# Altium footprint library Connector_FFC-FPC.PcbLib: 372 footprints (part 5 of 24)
Each footprint in its own frame and in the unit in brackets; x right, y up, seen from the top. Pads: shape width x height; smd on the part's side, far side on the other; paste and mask are expansions set on the pad; w line width, h text height; cw(c..) or ccw(c..) is an arc to the next point about the centre after c.
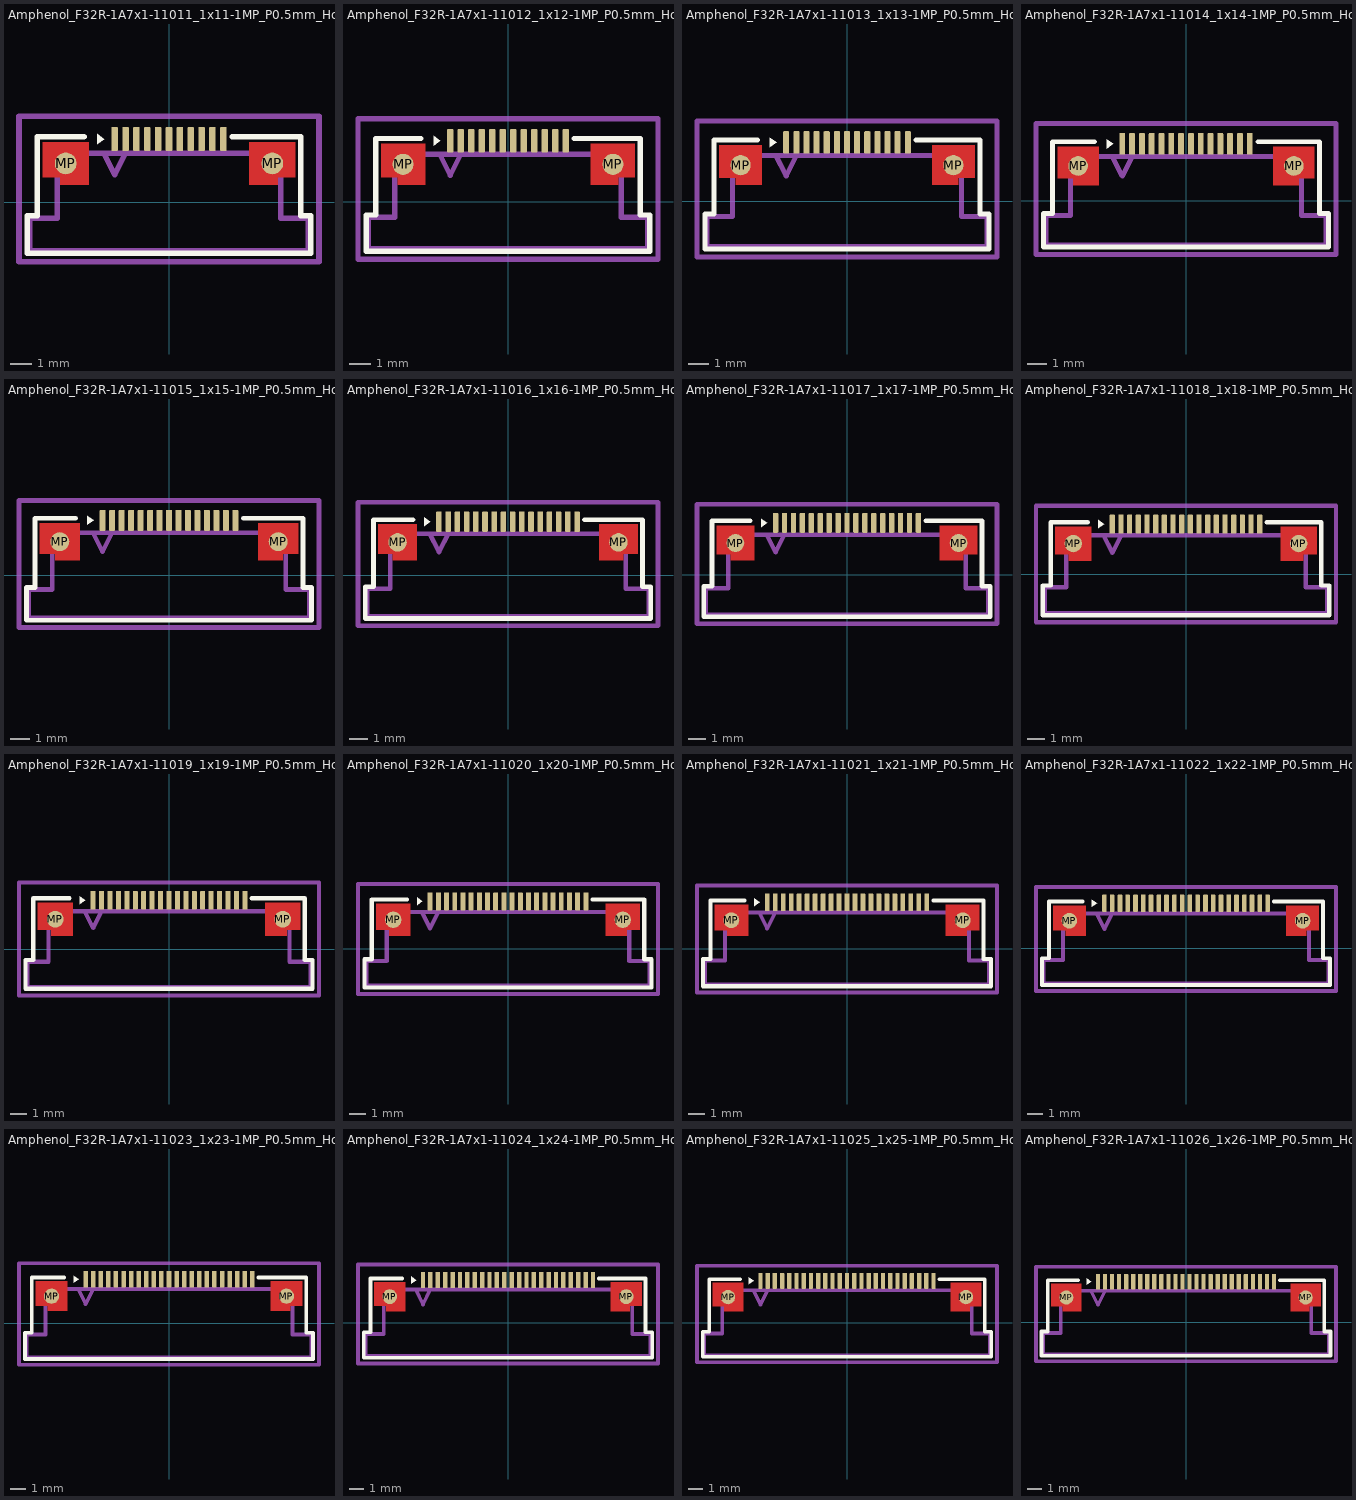
[diagram p4: the footprints below, top view; thin cyan lines are the x and y axes]

## Amphenol_F32R-1A7x1-11011_1x11-1MP_P0.5mm_Horizontal [mm]
pads (13):
  rrect25% 0.3x1.1 smd: 1(-2.5,2.9) 2(-2,2.9) 3(-1.5,2.9) 4(-1,2.9) 5(-0.5,2.9) 6(0,2.9) 7(0.5,2.9) 8(1,2.9) 9(1.5,2.9) 10(2,2.9) 11(2.5,2.9)
  round 1 smd: MP(-4.75,1.775) MP(4.75,1.775)
F.Cu:
  region: 5.8,1.15 5,1.15 5,0.8 3.7,0.8 3.7,2.75 5.8,2.75
  region: -3.7,0.8 -5,0.8 -5,1.15 -5.8,1.15 -5.8,2.75 -3.7,2.75
F.SilkS:
  region: -2.97,2.9 -3.3,2.66 -3.3,3.14
  lines w0.254: -3.91,3.01 -6.06,3.01 -6.06,-0.64 -6.51,-0.64 -6.51,-2.36 6.51,-2.36 6.51,-0.64 6.06,-0.64 6.06,3.01 2.91,3.01
F.Paste:
  region: 5.8,1.15 5,1.15 5,0.8 3.7,0.8 3.7,2.75 5.8,2.75
  region: -3.7,0.8 -5,0.8 -5,1.15 -5.8,1.15 -5.8,2.75 -3.7,2.75
F.Mask:
  region: 5.8,1.15 5,1.15 5,0.8 3.7,0.8 3.7,2.75 5.8,2.75
  region: -3.7,0.8 -5,0.8 -5,1.15 -5.8,1.15 -5.8,2.75 -3.7,2.75
Top Assembly:
  lines w0.254: -3,2.25 -2.5,1.25 -2,2.25 ; -6.4,-2.25 6.4,-2.25 6.4,-0.75 5.15,-0.75 5.15,2.25 -5.15,2.25 -5.15,-0.75 -6.4,-0.75 -6.4,-2.25
  text "'.Designator'" at -4.047,-0.84 h1
Top Courtyard:
  lines w0.254: -6.9,-2.75 6.9,-2.75 6.9,3.95 -6.9,3.95 -6.9,-2.75
Top Designator:
  text ".Designator" at -7.618,0.092 h1.52

## Amphenol_F32R-1A7x1-11012_1x12-1MP_P0.5mm_Horizontal [mm]
pads (14):
  rrect25% 0.3x1.1 smd: 1(-2.75,2.9) 2(-2.25,2.9) 3(-1.75,2.9) 4(-1.25,2.9) 5(-0.75,2.9) 6(-0.25,2.9) 7(0.25,2.9) 8(0.75,2.9) 9(1.25,2.9) 10(1.75,2.9) 11(2.25,2.9) 12(2.75,2.9)
  round 1 smd: MP(-5,1.775) MP(5,1.775)
F.Cu:
  region: 6.05,1.15 5.25,1.15 5.25,0.8 3.95,0.8 3.95,2.75 6.05,2.75
  region: -3.95,0.8 -5.25,0.8 -5.25,1.15 -6.05,1.15 -6.05,2.75 -3.95,2.75
F.SilkS:
  region: -3.22,2.9 -3.55,2.66 -3.55,3.14
  lines w0.254: -4.16,3.01 -6.31,3.01 -6.31,-0.64 -6.76,-0.64 -6.76,-2.36 6.76,-2.36 6.76,-0.64 6.31,-0.64 6.31,3.01 3.16,3.01
F.Paste:
  region: 6.05,1.15 5.25,1.15 5.25,0.8 3.95,0.8 3.95,2.75 6.05,2.75
  region: -3.95,0.8 -5.25,0.8 -5.25,1.15 -6.05,1.15 -6.05,2.75 -3.95,2.75
F.Mask:
  region: 6.05,1.15 5.25,1.15 5.25,0.8 3.95,0.8 3.95,2.75 6.05,2.75
  region: -3.95,0.8 -5.25,0.8 -5.25,1.15 -6.05,1.15 -6.05,2.75 -3.95,2.75
Top Assembly:
  lines w0.254: -3.25,2.25 -2.75,1.25 -2.25,2.25 ; -6.65,-2.25 6.65,-2.25 6.65,-0.75 5.4,-0.75 5.4,2.25 -5.4,2.25 -5.4,-0.75 -6.65,-0.75 -6.65,-2.25
  text "'.Designator'" at -4.047,-0.84 h1
Top Courtyard:
  lines w0.254: -7.15,-2.75 7.15,-2.75 7.15,3.95 -7.15,3.95 -7.15,-2.75
Top Designator:
  text ".Designator" at -7.618,0.092 h1.52

## Amphenol_F32R-1A7x1-11013_1x13-1MP_P0.5mm_Horizontal [mm]
pads (15):
  rrect25% 0.3x1.1 smd: 1(-3,2.9) 2(-2.5,2.9) 3(-2,2.9) 4(-1.5,2.9) 5(-1,2.9) 6(-0.5,2.9) 7(0,2.9) 8(0.5,2.9) 9(1,2.9) 10(1.5,2.9) 11(2,2.9) 12(2.5,2.9) 13(3,2.9)
  round 1 smd: MP(-5.25,1.775) MP(5.25,1.775)
F.Cu:
  region: 6.3,1.15 5.5,1.15 5.5,0.8 4.2,0.8 4.2,2.75 6.3,2.75
  region: -4.2,0.8 -5.5,0.8 -5.5,1.15 -6.3,1.15 -6.3,2.75 -4.2,2.75
F.SilkS:
  region: -3.47,2.9 -3.8,2.66 -3.8,3.14
  lines w0.254: -4.41,3.01 -6.56,3.01 -6.56,-0.64 -7.01,-0.64 -7.01,-2.36 7.01,-2.36 7.01,-0.64 6.56,-0.64 6.56,3.01 3.41,3.01
F.Paste:
  region: 6.3,1.15 5.5,1.15 5.5,0.8 4.2,0.8 4.2,2.75 6.3,2.75
  region: -4.2,0.8 -5.5,0.8 -5.5,1.15 -6.3,1.15 -6.3,2.75 -4.2,2.75
F.Mask:
  region: 6.3,1.15 5.5,1.15 5.5,0.8 4.2,0.8 4.2,2.75 6.3,2.75
  region: -4.2,0.8 -5.5,0.8 -5.5,1.15 -6.3,1.15 -6.3,2.75 -4.2,2.75
Top Assembly:
  lines w0.254: -3.5,2.25 -3,1.25 -2.5,2.25 ; -6.9,-2.25 6.9,-2.25 6.9,-0.75 5.65,-0.75 5.65,2.25 -5.65,2.25 -5.65,-0.75 -6.9,-0.75 -6.9,-2.25
  text "'.Designator'" at -4.047,-0.84 h1
Top Courtyard:
  lines w0.254: -7.4,-2.75 7.4,-2.75 7.4,3.95 -7.4,3.95 -7.4,-2.75
Top Designator:
  text ".Designator" at -7.618,0.092 h1.52

## Amphenol_F32R-1A7x1-11014_1x14-1MP_P0.5mm_Horizontal [mm]
pads (16):
  rrect25% 0.3x1.1 smd: 1(-3.25,2.9) 2(-2.75,2.9) 3(-2.25,2.9) 4(-1.75,2.9) 5(-1.25,2.9) 6(-0.75,2.9) 7(-0.25,2.9) 8(0.25,2.9) 9(0.75,2.9) 10(1.25,2.9) 11(1.75,2.9) 12(2.25,2.9) 13(2.75,2.9) 14(3.25,2.9)
  round 1 smd: MP(-5.5,1.775) MP(5.5,1.775)
F.Cu:
  region: 6.55,1.15 5.75,1.15 5.75,0.8 4.45,0.8 4.45,2.75 6.55,2.75
  region: -4.45,0.8 -5.75,0.8 -5.75,1.15 -6.55,1.15 -6.55,2.75 -4.45,2.75
F.SilkS:
  region: -3.72,2.9 -4.05,2.66 -4.05,3.14
  lines w0.254: -4.66,3.01 -6.81,3.01 -6.81,-0.64 -7.26,-0.64 -7.26,-2.36 7.26,-2.36 7.26,-0.64 6.81,-0.64 6.81,3.01 3.66,3.01
F.Paste:
  region: 6.55,1.15 5.75,1.15 5.75,0.8 4.45,0.8 4.45,2.75 6.55,2.75
  region: -4.45,0.8 -5.75,0.8 -5.75,1.15 -6.55,1.15 -6.55,2.75 -4.45,2.75
F.Mask:
  region: 6.55,1.15 5.75,1.15 5.75,0.8 4.45,0.8 4.45,2.75 6.55,2.75
  region: -4.45,0.8 -5.75,0.8 -5.75,1.15 -6.55,1.15 -6.55,2.75 -4.45,2.75
Top Assembly:
  lines w0.254: -3.75,2.25 -3.25,1.25 -2.75,2.25 ; -7.15,-2.25 7.15,-2.25 7.15,-0.75 5.9,-0.75 5.9,2.25 -5.9,2.25 -5.9,-0.75 -7.15,-0.75 -7.15,-2.25
  text "'.Designator'" at -4.047,-0.84 h1
Top Courtyard:
  lines w0.254: -7.65,-2.75 7.65,-2.75 7.65,3.95 -7.65,3.95 -7.65,-2.75
Top Designator:
  text ".Designator" at -7.618,0.092 h1.52

## Amphenol_F32R-1A7x1-11015_1x15-1MP_P0.5mm_Horizontal [mm]
pads (17):
  rrect25% 0.3x1.1 smd: 1(-3.5,2.9) 2(-3,2.9) 3(-2.5,2.9) 4(-2,2.9) 5(-1.5,2.9) 6(-1,2.9) 7(-0.5,2.9) 8(0,2.9) 9(0.5,2.9) 10(1,2.9) 11(1.5,2.9) 12(2,2.9) 13(2.5,2.9) 14(3,2.9) 15(3.5,2.9)
  round 1 smd: MP(-5.75,1.775) MP(5.75,1.775)
F.Cu:
  region: 6.8,1.15 6,1.15 6,0.8 4.7,0.8 4.7,2.75 6.8,2.75
  region: -4.7,0.8 -6,0.8 -6,1.15 -6.8,1.15 -6.8,2.75 -4.7,2.75
F.SilkS:
  region: -3.97,2.9 -4.3,2.66 -4.3,3.14
  lines w0.254: -4.91,3.01 -7.06,3.01 -7.06,-0.64 -7.51,-0.64 -7.51,-2.36 7.51,-2.36 7.51,-0.64 7.06,-0.64 7.06,3.01 3.91,3.01
F.Paste:
  region: 6.8,1.15 6,1.15 6,0.8 4.7,0.8 4.7,2.75 6.8,2.75
  region: -4.7,0.8 -6,0.8 -6,1.15 -6.8,1.15 -6.8,2.75 -4.7,2.75
F.Mask:
  region: 6.8,1.15 6,1.15 6,0.8 4.7,0.8 4.7,2.75 6.8,2.75
  region: -4.7,0.8 -6,0.8 -6,1.15 -6.8,1.15 -6.8,2.75 -4.7,2.75
Top Assembly:
  lines w0.254: -4,2.25 -3.5,1.25 -3,2.25 ; -7.4,-2.25 7.4,-2.25 7.4,-0.75 6.15,-0.75 6.15,2.25 -6.15,2.25 -6.15,-0.75 -7.4,-0.75 -7.4,-2.25
  text "'.Designator'" at -4.047,-0.84 h1
Top Courtyard:
  lines w0.254: -7.9,-2.75 7.9,-2.75 7.9,3.95 -7.9,3.95 -7.9,-2.75
Top Designator:
  text ".Designator" at -7.618,0.092 h1.52

## Amphenol_F32R-1A7x1-11016_1x16-1MP_P0.5mm_Horizontal [mm]
pads (18):
  rrect25% 0.3x1.1 smd: 1(-3.75,2.9) 2(-3.25,2.9) 3(-2.75,2.9) 4(-2.25,2.9) 5(-1.75,2.9) 6(-1.25,2.9) 7(-0.75,2.9) 8(-0.25,2.9) 9(0.25,2.9) 10(0.75,2.9) 11(1.25,2.9) 12(1.75,2.9) 13(2.25,2.9) 14(2.75,2.9) 15(3.25,2.9) 16(3.75,2.9)
  round 1 smd: MP(-6,1.775) MP(6,1.775)
F.Cu:
  region: 7.05,1.15 6.25,1.15 6.25,0.8 4.95,0.8 4.95,2.75 7.05,2.75
  region: -4.95,0.8 -6.25,0.8 -6.25,1.15 -7.05,1.15 -7.05,2.75 -4.95,2.75
F.SilkS:
  region: -4.22,2.9 -4.55,2.66 -4.55,3.14
  lines w0.254: -5.16,3.01 -7.31,3.01 -7.31,-0.64 -7.76,-0.64 -7.76,-2.36 7.76,-2.36 7.76,-0.64 7.31,-0.64 7.31,3.01 4.16,3.01
F.Paste:
  region: 7.05,1.15 6.25,1.15 6.25,0.8 4.95,0.8 4.95,2.75 7.05,2.75
  region: -4.95,0.8 -6.25,0.8 -6.25,1.15 -7.05,1.15 -7.05,2.75 -4.95,2.75
F.Mask:
  region: 7.05,1.15 6.25,1.15 6.25,0.8 4.95,0.8 4.95,2.75 7.05,2.75
  region: -4.95,0.8 -6.25,0.8 -6.25,1.15 -7.05,1.15 -7.05,2.75 -4.95,2.75
Top Assembly:
  lines w0.254: -4.25,2.25 -3.75,1.25 -3.25,2.25 ; -7.65,-2.25 7.65,-2.25 7.65,-0.75 6.4,-0.75 6.4,2.25 -6.4,2.25 -6.4,-0.75 -7.65,-0.75 -7.65,-2.25
  text "'.Designator'" at -4.047,-0.84 h1
Top Courtyard:
  lines w0.254: -8.15,-2.75 8.15,-2.75 8.15,3.95 -8.15,3.95 -8.15,-2.75
Top Designator:
  text ".Designator" at -7.618,0.092 h1.52

## Amphenol_F32R-1A7x1-11017_1x17-1MP_P0.5mm_Horizontal [mm]
pads (19):
  rrect25% 0.3x1.1 smd: 1(-4,2.9) 2(-3.5,2.9) 3(-3,2.9) 4(-2.5,2.9) 5(-2,2.9) 6(-1.5,2.9) 7(-1,2.9) 8(-0.5,2.9) 9(0,2.9) 10(0.5,2.9) 11(1,2.9) 12(1.5,2.9) 13(2,2.9) 14(2.5,2.9) 15(3,2.9) 16(3.5,2.9) 17(4,2.9)
  round 1 smd: MP(-6.25,1.775) MP(6.25,1.775)
F.Cu:
  region: 7.3,1.15 6.5,1.15 6.5,0.8 5.2,0.8 5.2,2.75 7.3,2.75
  region: -5.2,0.8 -6.5,0.8 -6.5,1.15 -7.3,1.15 -7.3,2.75 -5.2,2.75
F.SilkS:
  region: -4.47,2.9 -4.8,2.66 -4.8,3.14
  lines w0.254: -5.41,3.01 -7.56,3.01 -7.56,-0.64 -8.01,-0.64 -8.01,-2.36 8.01,-2.36 8.01,-0.64 7.56,-0.64 7.56,3.01 4.41,3.01
F.Paste:
  region: 7.3,1.15 6.5,1.15 6.5,0.8 5.2,0.8 5.2,2.75 7.3,2.75
  region: -5.2,0.8 -6.5,0.8 -6.5,1.15 -7.3,1.15 -7.3,2.75 -5.2,2.75
F.Mask:
  region: 7.3,1.15 6.5,1.15 6.5,0.8 5.2,0.8 5.2,2.75 7.3,2.75
  region: -5.2,0.8 -6.5,0.8 -6.5,1.15 -7.3,1.15 -7.3,2.75 -5.2,2.75
Top Assembly:
  lines w0.254: -4.5,2.25 -4,1.25 -3.5,2.25 ; -7.9,-2.25 7.9,-2.25 7.9,-0.75 6.65,-0.75 6.65,2.25 -6.65,2.25 -6.65,-0.75 -7.9,-0.75 -7.9,-2.25
  text "'.Designator'" at -4.047,-0.84 h1
Top Courtyard:
  lines w0.254: -8.4,-2.75 8.4,-2.75 8.4,3.95 -8.4,3.95 -8.4,-2.75
Top Designator:
  text ".Designator" at -7.618,0.092 h1.52

## Amphenol_F32R-1A7x1-11018_1x18-1MP_P0.5mm_Horizontal [mm]
pads (20):
  rrect25% 0.3x1.1 smd: 1(-4.25,2.9) 2(-3.75,2.9) 3(-3.25,2.9) 4(-2.75,2.9) 5(-2.25,2.9) 6(-1.75,2.9) 7(-1.25,2.9) 8(-0.75,2.9) 9(-0.25,2.9) 10(0.25,2.9) 11(0.75,2.9) 12(1.25,2.9) 13(1.75,2.9) 14(2.25,2.9) 15(2.75,2.9) 16(3.25,2.9) 17(3.75,2.9) 18(4.25,2.9)
  round 1 smd: MP(-6.5,1.775) MP(6.5,1.775)
F.Cu:
  region: 7.55,1.15 6.75,1.15 6.75,0.8 5.45,0.8 5.45,2.75 7.55,2.75
  region: -5.45,0.8 -6.75,0.8 -6.75,1.15 -7.55,1.15 -7.55,2.75 -5.45,2.75
F.SilkS:
  region: -4.72,2.9 -5.05,2.66 -5.05,3.14
  lines w0.254: -5.66,3.01 -7.81,3.01 -7.81,-0.64 -8.26,-0.64 -8.26,-2.36 8.26,-2.36 8.26,-0.64 7.81,-0.64 7.81,3.01 4.66,3.01
F.Paste:
  region: 7.55,1.15 6.75,1.15 6.75,0.8 5.45,0.8 5.45,2.75 7.55,2.75
  region: -5.45,0.8 -6.75,0.8 -6.75,1.15 -7.55,1.15 -7.55,2.75 -5.45,2.75
F.Mask:
  region: 7.55,1.15 6.75,1.15 6.75,0.8 5.45,0.8 5.45,2.75 7.55,2.75
  region: -5.45,0.8 -6.75,0.8 -6.75,1.15 -7.55,1.15 -7.55,2.75 -5.45,2.75
Top Assembly:
  lines w0.254: -4.75,2.25 -4.25,1.25 -3.75,2.25 ; -8.15,-2.25 8.15,-2.25 8.15,-0.75 6.9,-0.75 6.9,2.25 -6.9,2.25 -6.9,-0.75 -8.15,-0.75 -8.15,-2.25
  text "'.Designator'" at -4.047,-0.84 h1
Top Courtyard:
  lines w0.254: -8.65,-2.75 8.65,-2.75 8.65,3.95 -8.65,3.95 -8.65,-2.75
Top Designator:
  text ".Designator" at -7.618,0.092 h1.52

## Amphenol_F32R-1A7x1-11019_1x19-1MP_P0.5mm_Horizontal [mm]
pads (21):
  rrect25% 0.3x1.1 smd: 1(-4.5,2.9) 2(-4,2.9) 3(-3.5,2.9) 4(-3,2.9) 5(-2.5,2.9) 6(-2,2.9) 7(-1.5,2.9) 8(-1,2.9) 9(-0.5,2.9) 10(0,2.9) 11(0.5,2.9) 12(1,2.9) 13(1.5,2.9) 14(2,2.9) 15(2.5,2.9) 16(3,2.9) 17(3.5,2.9) 18(4,2.9) 19(4.5,2.9)
  round 1 smd: MP(-6.75,1.775) MP(6.75,1.775)
F.Cu:
  region: 7.8,1.15 7,1.15 7,0.8 5.7,0.8 5.7,2.75 7.8,2.75
  region: -5.7,0.8 -7,0.8 -7,1.15 -7.8,1.15 -7.8,2.75 -5.7,2.75
F.SilkS:
  region: -4.97,2.9 -5.3,2.66 -5.3,3.14
  lines w0.254: -5.91,3.01 -8.06,3.01 -8.06,-0.64 -8.51,-0.64 -8.51,-2.36 8.51,-2.36 8.51,-0.64 8.06,-0.64 8.06,3.01 4.91,3.01
F.Paste:
  region: 7.8,1.15 7,1.15 7,0.8 5.7,0.8 5.7,2.75 7.8,2.75
  region: -5.7,0.8 -7,0.8 -7,1.15 -7.8,1.15 -7.8,2.75 -5.7,2.75
F.Mask:
  region: 7.8,1.15 7,1.15 7,0.8 5.7,0.8 5.7,2.75 7.8,2.75
  region: -5.7,0.8 -7,0.8 -7,1.15 -7.8,1.15 -7.8,2.75 -5.7,2.75
Top Assembly:
  lines w0.254: -5,2.25 -4.5,1.25 -4,2.25 ; -8.4,-2.25 8.4,-2.25 8.4,-0.75 7.15,-0.75 7.15,2.25 -7.15,2.25 -7.15,-0.75 -8.4,-0.75 -8.4,-2.25
  text "'.Designator'" at -4.047,-0.84 h1
Top Courtyard:
  lines w0.254: -8.9,-2.75 8.9,-2.75 8.9,3.95 -8.9,3.95 -8.9,-2.75
Top Designator:
  text ".Designator" at -7.618,0.092 h1.52

## Amphenol_F32R-1A7x1-11020_1x20-1MP_P0.5mm_Horizontal [mm]
pads (22):
  rrect25% 0.3x1.1 smd: 1(-4.75,2.9) 2(-4.25,2.9) 3(-3.75,2.9) 4(-3.25,2.9) 5(-2.75,2.9) 6(-2.25,2.9) 7(-1.75,2.9) 8(-1.25,2.9) 9(-0.75,2.9) 10(-0.25,2.9) 11(0.25,2.9) 12(0.75,2.9) 13(1.25,2.9) 14(1.75,2.9) 15(2.25,2.9) 16(2.75,2.9) 17(3.25,2.9) 18(3.75,2.9) 19(4.25,2.9) 20(4.75,2.9)
  round 1 smd: MP(-7,1.775) MP(7,1.775)
F.Cu:
  region: 8.05,1.15 7.25,1.15 7.25,0.8 5.95,0.8 5.95,2.75 8.05,2.75
  region: -5.95,0.8 -7.25,0.8 -7.25,1.15 -8.05,1.15 -8.05,2.75 -5.95,2.75
F.SilkS:
  region: -5.22,2.9 -5.55,2.66 -5.55,3.14
  lines w0.254: -6.16,3.01 -8.31,3.01 -8.31,-0.64 -8.76,-0.64 -8.76,-2.36 8.76,-2.36 8.76,-0.64 8.31,-0.64 8.31,3.01 5.16,3.01
F.Paste:
  region: 8.05,1.15 7.25,1.15 7.25,0.8 5.95,0.8 5.95,2.75 8.05,2.75
  region: -5.95,0.8 -7.25,0.8 -7.25,1.15 -8.05,1.15 -8.05,2.75 -5.95,2.75
F.Mask:
  region: 8.05,1.15 7.25,1.15 7.25,0.8 5.95,0.8 5.95,2.75 8.05,2.75
  region: -5.95,0.8 -7.25,0.8 -7.25,1.15 -8.05,1.15 -8.05,2.75 -5.95,2.75
Top Assembly:
  lines w0.254: -5.25,2.25 -4.75,1.25 -4.25,2.25 ; -8.65,-2.25 8.65,-2.25 8.65,-0.75 7.4,-0.75 7.4,2.25 -7.4,2.25 -7.4,-0.75 -8.65,-0.75 -8.65,-2.25
  text "'.Designator'" at -4.047,-0.84 h1
Top Courtyard:
  lines w0.254: -9.15,-2.75 9.15,-2.75 9.15,3.95 -9.15,3.95 -9.15,-2.75
Top Designator:
  text ".Designator" at -7.618,0.092 h1.52

## Amphenol_F32R-1A7x1-11021_1x21-1MP_P0.5mm_Horizontal [mm]
pads (23):
  rrect25% 0.3x1.1 smd: 1(-5,2.9) 2(-4.5,2.9) 3(-4,2.9) 4(-3.5,2.9) 5(-3,2.9) 6(-2.5,2.9) 7(-2,2.9) 8(-1.5,2.9) 9(-1,2.9) 10(-0.5,2.9) 11(0,2.9) 12(0.5,2.9) 13(1,2.9) 14(1.5,2.9) 15(2,2.9) 16(2.5,2.9) 17(3,2.9) 18(3.5,2.9) 19(4,2.9) 20(4.5,2.9) 21(5,2.9)
  round 1 smd: MP(-7.25,1.775) MP(7.25,1.775)
F.Cu:
  region: 8.3,1.15 7.5,1.15 7.5,0.8 6.2,0.8 6.2,2.75 8.3,2.75
  region: -6.2,0.8 -7.5,0.8 -7.5,1.15 -8.3,1.15 -8.3,2.75 -6.2,2.75
F.SilkS:
  region: -5.47,2.9 -5.8,2.66 -5.8,3.14
  lines w0.254: -6.41,3.01 -8.56,3.01 -8.56,-0.64 -9.01,-0.64 -9.01,-2.36 9.01,-2.36 9.01,-0.64 8.56,-0.64 8.56,3.01 5.41,3.01
F.Paste:
  region: 8.3,1.15 7.5,1.15 7.5,0.8 6.2,0.8 6.2,2.75 8.3,2.75
  region: -6.2,0.8 -7.5,0.8 -7.5,1.15 -8.3,1.15 -8.3,2.75 -6.2,2.75
F.Mask:
  region: 8.3,1.15 7.5,1.15 7.5,0.8 6.2,0.8 6.2,2.75 8.3,2.75
  region: -6.2,0.8 -7.5,0.8 -7.5,1.15 -8.3,1.15 -8.3,2.75 -6.2,2.75
Top Assembly:
  lines w0.254: -5.5,2.25 -5,1.25 -4.5,2.25 ; -8.9,-2.25 8.9,-2.25 8.9,-0.75 7.65,-0.75 7.65,2.25 -7.65,2.25 -7.65,-0.75 -8.9,-0.75 -8.9,-2.25
  text "'.Designator'" at -4.047,-0.84 h1
Top Courtyard:
  lines w0.254: -9.4,-2.75 9.4,-2.75 9.4,3.95 -9.4,3.95 -9.4,-2.75
Top Designator:
  text ".Designator" at -7.618,0.092 h1.52

## Amphenol_F32R-1A7x1-11022_1x22-1MP_P0.5mm_Horizontal [mm]
pads (24):
  rrect25% 0.3x1.1 smd: 1(-5.25,2.9) 2(-4.75,2.9) 3(-4.25,2.9) 4(-3.75,2.9) 5(-3.25,2.9) 6(-2.75,2.9) 7(-2.25,2.9) 8(-1.75,2.9) 9(-1.25,2.9) 10(-0.75,2.9) 11(-0.25,2.9) 12(0.25,2.9) 13(0.75,2.9) 14(1.25,2.9) 15(1.75,2.9) 16(2.25,2.9) 17(2.75,2.9) 18(3.25,2.9) 19(3.75,2.9) 20(4.25,2.9) 21(4.75,2.9) 22(5.25,2.9)
  round 1 smd: MP(-7.5,1.775) MP(7.5,1.775)
F.Cu:
  region: 8.55,1.15 7.75,1.15 7.75,0.8 6.45,0.8 6.45,2.75 8.55,2.75
  region: -6.45,0.8 -7.75,0.8 -7.75,1.15 -8.55,1.15 -8.55,2.75 -6.45,2.75
F.SilkS:
  region: -5.72,2.9 -6.05,2.66 -6.05,3.14
  lines w0.254: -6.66,3.01 -8.81,3.01 -8.81,-0.64 -9.26,-0.64 -9.26,-2.36 9.26,-2.36 9.26,-0.64 8.81,-0.64 8.81,3.01 5.66,3.01
F.Paste:
  region: 8.55,1.15 7.75,1.15 7.75,0.8 6.45,0.8 6.45,2.75 8.55,2.75
  region: -6.45,0.8 -7.75,0.8 -7.75,1.15 -8.55,1.15 -8.55,2.75 -6.45,2.75
F.Mask:
  region: 8.55,1.15 7.75,1.15 7.75,0.8 6.45,0.8 6.45,2.75 8.55,2.75
  region: -6.45,0.8 -7.75,0.8 -7.75,1.15 -8.55,1.15 -8.55,2.75 -6.45,2.75
Top Assembly:
  lines w0.254: -5.75,2.25 -5.25,1.25 -4.75,2.25 ; -9.15,-2.25 9.15,-2.25 9.15,-0.75 7.9,-0.75 7.9,2.25 -7.9,2.25 -7.9,-0.75 -9.15,-0.75 -9.15,-2.25
  text "'.Designator'" at -4.047,-0.84 h1
Top Courtyard:
  lines w0.254: -9.65,-2.75 9.65,-2.75 9.65,3.95 -9.65,3.95 -9.65,-2.75
Top Designator:
  text ".Designator" at -7.618,0.092 h1.52

## Amphenol_F32R-1A7x1-11023_1x23-1MP_P0.5mm_Horizontal [mm]
pads (25):
  rrect25% 0.3x1.1 smd: 1(-5.5,2.9) 2(-5,2.9) 3(-4.5,2.9) 4(-4,2.9) 5(-3.5,2.9) 6(-3,2.9) 7(-2.5,2.9) 8(-2,2.9) 9(-1.5,2.9) 10(-1,2.9) 11(-0.5,2.9) 12(0,2.9) 13(0.5,2.9) 14(1,2.9) 15(1.5,2.9) 16(2,2.9) 17(2.5,2.9) 18(3,2.9) 19(3.5,2.9) 20(4,2.9) 21(4.5,2.9) 22(5,2.9) 23(5.5,2.9)
  round 1 smd: MP(-7.75,1.775) MP(7.75,1.775)
F.Cu:
  region: 8.8,1.15 8,1.15 8,0.8 6.7,0.8 6.7,2.75 8.8,2.75
  region: -6.7,0.8 -8,0.8 -8,1.15 -8.8,1.15 -8.8,2.75 -6.7,2.75
F.SilkS:
  region: -5.97,2.9 -6.3,2.66 -6.3,3.14
  lines w0.254: -6.91,3.01 -9.06,3.01 -9.06,-0.64 -9.51,-0.64 -9.51,-2.36 9.51,-2.36 9.51,-0.64 9.06,-0.64 9.06,3.01 5.91,3.01
F.Paste:
  region: 8.8,1.15 8,1.15 8,0.8 6.7,0.8 6.7,2.75 8.8,2.75
  region: -6.7,0.8 -8,0.8 -8,1.15 -8.8,1.15 -8.8,2.75 -6.7,2.75
F.Mask:
  region: 8.8,1.15 8,1.15 8,0.8 6.7,0.8 6.7,2.75 8.8,2.75
  region: -6.7,0.8 -8,0.8 -8,1.15 -8.8,1.15 -8.8,2.75 -6.7,2.75
Top Assembly:
  lines w0.254: -6,2.25 -5.5,1.25 -5,2.25 ; -9.4,-2.25 9.4,-2.25 9.4,-0.75 8.15,-0.75 8.15,2.25 -8.15,2.25 -8.15,-0.75 -9.4,-0.75 -9.4,-2.25
  text "'.Designator'" at -4.047,-0.84 h1
Top Courtyard:
  lines w0.254: -9.9,-2.75 9.9,-2.75 9.9,3.95 -9.9,3.95 -9.9,-2.75
Top Designator:
  text ".Designator" at -7.618,0.092 h1.52

## Amphenol_F32R-1A7x1-11024_1x24-1MP_P0.5mm_Horizontal [mm]
pads (26):
  rrect25% 0.3x1.1 smd: 1(-5.75,2.9) 2(-5.25,2.9) 3(-4.75,2.9) 4(-4.25,2.9) 5(-3.75,2.9) 6(-3.25,2.9) 7(-2.75,2.9) 8(-2.25,2.9) 9(-1.75,2.9) 10(-1.25,2.9) 11(-0.75,2.9) 12(-0.25,2.9) 13(0.25,2.9) 14(0.75,2.9) 15(1.25,2.9) 16(1.75,2.9) 17(2.25,2.9) 18(2.75,2.9) 19(3.25,2.9) 20(3.75,2.9) 21(4.25,2.9) 22(4.75,2.9) 23(5.25,2.9) 24(5.75,2.9)
  round 1 smd: MP(-8,1.775) MP(8,1.775)
F.Cu:
  region: 9.05,1.15 8.25,1.15 8.25,0.8 6.95,0.8 6.95,2.75 9.05,2.75
  region: -6.95,0.8 -8.25,0.8 -8.25,1.15 -9.05,1.15 -9.05,2.75 -6.95,2.75
F.SilkS:
  region: -6.22,2.9 -6.55,2.66 -6.55,3.14
  lines w0.254: -7.16,3.01 -9.31,3.01 -9.31,-0.64 -9.76,-0.64 -9.76,-2.36 9.76,-2.36 9.76,-0.64 9.31,-0.64 9.31,3.01 6.16,3.01
F.Paste:
  region: 9.05,1.15 8.25,1.15 8.25,0.8 6.95,0.8 6.95,2.75 9.05,2.75
  region: -6.95,0.8 -8.25,0.8 -8.25,1.15 -9.05,1.15 -9.05,2.75 -6.95,2.75
F.Mask:
  region: 9.05,1.15 8.25,1.15 8.25,0.8 6.95,0.8 6.95,2.75 9.05,2.75
  region: -6.95,0.8 -8.25,0.8 -8.25,1.15 -9.05,1.15 -9.05,2.75 -6.95,2.75
Top Assembly:
  lines w0.254: -6.25,2.25 -5.75,1.25 -5.25,2.25 ; -9.65,-2.25 9.65,-2.25 9.65,-0.75 8.4,-0.75 8.4,2.25 -8.4,2.25 -8.4,-0.75 -9.65,-0.75 -9.65,-2.25
  text "'.Designator'" at -4.047,-0.84 h1
Top Courtyard:
  lines w0.254: -10.15,-2.75 10.15,-2.75 10.15,3.95 -10.15,3.95 -10.15,-2.75
Top Designator:
  text ".Designator" at -7.618,0.092 h1.52

## Amphenol_F32R-1A7x1-11025_1x25-1MP_P0.5mm_Horizontal [mm]
pads (27):
  rrect25% 0.3x1.1 smd: 1(-6,2.9) 2(-5.5,2.9) 3(-5,2.9) 4(-4.5,2.9) 5(-4,2.9) 6(-3.5,2.9) 7(-3,2.9) 8(-2.5,2.9) 9(-2,2.9) 10(-1.5,2.9) 11(-1,2.9) 12(-0.5,2.9) 13(0,2.9) 14(0.5,2.9) 15(1,2.9) 16(1.5,2.9) 17(2,2.9) 18(2.5,2.9) 19(3,2.9) 20(3.5,2.9) 21(4,2.9) 22(4.5,2.9) 23(5,2.9) 24(5.5,2.9) 25(6,2.9)
  round 1 smd: MP(-8.25,1.775) MP(8.25,1.775)
F.Cu:
  region: 9.3,1.15 8.5,1.15 8.5,0.8 7.2,0.8 7.2,2.75 9.3,2.75
  region: -7.2,0.8 -8.5,0.8 -8.5,1.15 -9.3,1.15 -9.3,2.75 -7.2,2.75
F.SilkS:
  region: -6.47,2.9 -6.8,2.66 -6.8,3.14
  lines w0.254: -7.41,3.01 -9.56,3.01 -9.56,-0.64 -10.01,-0.64 -10.01,-2.36 10.01,-2.36 10.01,-0.64 9.56,-0.64 9.56,3.01 6.41,3.01
F.Paste:
  region: 9.3,1.15 8.5,1.15 8.5,0.8 7.2,0.8 7.2,2.75 9.3,2.75
  region: -7.2,0.8 -8.5,0.8 -8.5,1.15 -9.3,1.15 -9.3,2.75 -7.2,2.75
F.Mask:
  region: 9.3,1.15 8.5,1.15 8.5,0.8 7.2,0.8 7.2,2.75 9.3,2.75
  region: -7.2,0.8 -8.5,0.8 -8.5,1.15 -9.3,1.15 -9.3,2.75 -7.2,2.75
Top Assembly:
  lines w0.254: -6.5,2.25 -6,1.25 -5.5,2.25 ; -9.9,-2.25 9.9,-2.25 9.9,-0.75 8.65,-0.75 8.65,2.25 -8.65,2.25 -8.65,-0.75 -9.9,-0.75 -9.9,-2.25
  text "'.Designator'" at -4.047,-0.84 h1
Top Courtyard:
  lines w0.254: -10.4,-2.75 10.4,-2.75 10.4,3.95 -10.4,3.95 -10.4,-2.75
Top Designator:
  text ".Designator" at -7.618,0.092 h1.52

## Amphenol_F32R-1A7x1-11026_1x26-1MP_P0.5mm_Horizontal [mm]
pads (28):
  rrect25% 0.3x1.1 smd: 1(-6.25,2.9) 2(-5.75,2.9) 3(-5.25,2.9) 4(-4.75,2.9) 5(-4.25,2.9) 6(-3.75,2.9) 7(-3.25,2.9) 8(-2.75,2.9) 9(-2.25,2.9) 10(-1.75,2.9) 11(-1.25,2.9) 12(-0.75,2.9) 13(-0.25,2.9) 14(0.25,2.9) 15(0.75,2.9) 16(1.25,2.9) 17(1.75,2.9) 18(2.25,2.9) 19(2.75,2.9) 20(3.25,2.9) 21(3.75,2.9) 22(4.25,2.9) 23(4.75,2.9) 24(5.25,2.9) 25(5.75,2.9) 26(6.25,2.9)
  round 1 smd: MP(-8.5,1.775) MP(8.5,1.775)
F.Cu:
  region: 9.55,1.15 8.75,1.15 8.75,0.8 7.45,0.8 7.45,2.75 9.55,2.75
  region: -7.45,0.8 -8.75,0.8 -8.75,1.15 -9.55,1.15 -9.55,2.75 -7.45,2.75
F.SilkS:
  region: -6.72,2.9 -7.05,2.66 -7.05,3.14
  lines w0.254: -7.66,3.01 -9.81,3.01 -9.81,-0.64 -10.26,-0.64 -10.26,-2.36 10.26,-2.36 10.26,-0.64 9.81,-0.64 9.81,3.01 6.66,3.01
F.Paste:
  region: 9.55,1.15 8.75,1.15 8.75,0.8 7.45,0.8 7.45,2.75 9.55,2.75
  region: -7.45,0.8 -8.75,0.8 -8.75,1.15 -9.55,1.15 -9.55,2.75 -7.45,2.75
F.Mask:
  region: 9.55,1.15 8.75,1.15 8.75,0.8 7.45,0.8 7.45,2.75 9.55,2.75
  region: -7.45,0.8 -8.75,0.8 -8.75,1.15 -9.55,1.15 -9.55,2.75 -7.45,2.75
Top Assembly:
  lines w0.254: -6.75,2.25 -6.25,1.25 -5.75,2.25 ; -10.15,-2.25 10.15,-2.25 10.15,-0.75 8.9,-0.75 8.9,2.25 -8.9,2.25 -8.9,-0.75 -10.15,-0.75 -10.15,-2.25
  text "'.Designator'" at -4.047,-0.84 h1
Top Courtyard:
  lines w0.254: -10.65,-2.75 10.65,-2.75 10.65,3.95 -10.65,3.95 -10.65,-2.75
Top Designator:
  text ".Designator" at -7.618,0.092 h1.52